# Altium schematic symbol library V__6.SchLib: 4 symbols
Pins are listed as number, name and electrical type; pins without a type are passive.

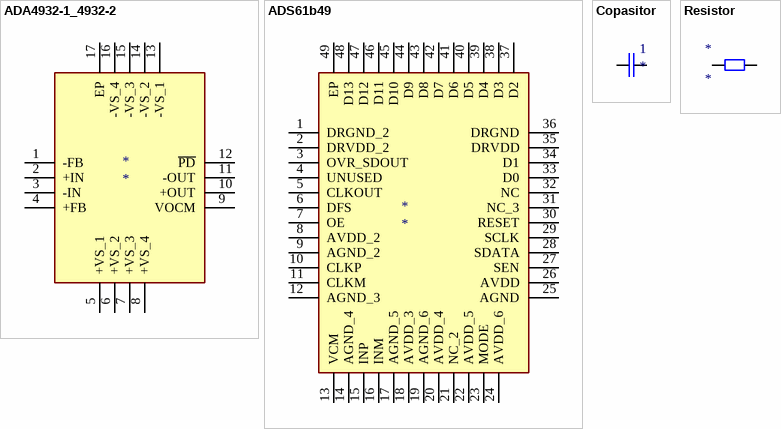
[diagram p0: symbols ADA4932-1_4932-2 to Resistor]

## ADA4932-1_4932-2
designator *
footprint ADA4932-1
pins: 1 -FB, 2 +IN, 3 -IN, 4 +FB, 5 +VS_1, 6 +VS_2, 7 +VS_3, 8 +VS_4, 9 VOCM, 10 +OUT, 11 -OUT, 12 ~{PD}, 13 -VS_1, 14 -VS_2, 15 -VS_3, 16 -VS_4, 17 EP

## ADS61b49
designator *
footprint ADS61b49
pins: 1 DRGND_2, 2 DRVDD_2, 3 OVR_SDOUT, 4 UNUSED, 5 CLKOUT, 6 DFS, 7 OE, 8 AVDD_2, 9 AGND_2, 10 CLKP, 11 CLKM, 12 AGND_3, 13 VCM, 14 AGND_4, 15 INP, 16 INM, 17 AGND_5, 18 AVDD_3, 19 AGND_6, 20 AVDD_4, 21 NC_2, 22 AVDD_5, 23 MODE, 24 AVDD_6, 25 AGND, 26 AVDD, 27 SEN, 28 SDATA, 29 SCLK, 30 RESET, 31 NC_3, 32 NC, 33 D0, 34 D1, 35 DRVDD, 36 DRGND, 37 D2, 38 D3, 39 D4, 40 D5, 41 D6, 42 D7, 43 D8, 44 D9, 45 D10, 46 D11, 47 D12, 48 D13, 49 EP

## Copasitor
designator 1
footprint Copasitor (0805)
pins: 1, 2

## Resistor
designator *
footprint Resistor (0805)
pins: 1, 2